# Altium schematic symbol library ADAFRUIT_9DOF_IMU.SchLib: 1 symbol
Pins are listed as number, name and electrical type; pins without a type are passive.

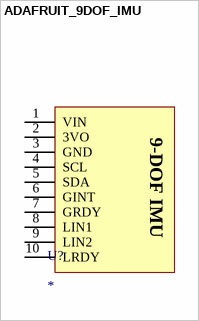
[diagram p0: symbol ADAFRUIT_9DOF_IMU]

## ADAFRUIT_9DOF_IMU
designator U?
pins: 1 VIN, 2 3VO, 3 GND, 4 SCL, 5 SDA, 6 GINT, 7 GRDY, 8 LIN1, 9 LIN2, 10 LRDY
text: 9-DOF IMU